# Altium footprint library 691 313 510 0xx.PcbLib: 23 footprints (part 2 of 2)
Each footprint in its own frame and in the unit in brackets; x right, y up, seen from the top. Pads: shape width x height; smd on the part's side, far side on the other; paste and mask are expansions set on the pad; w line width, h text height; cw(c..) or ccw(c..) is an arc to the next point about the centre after c.
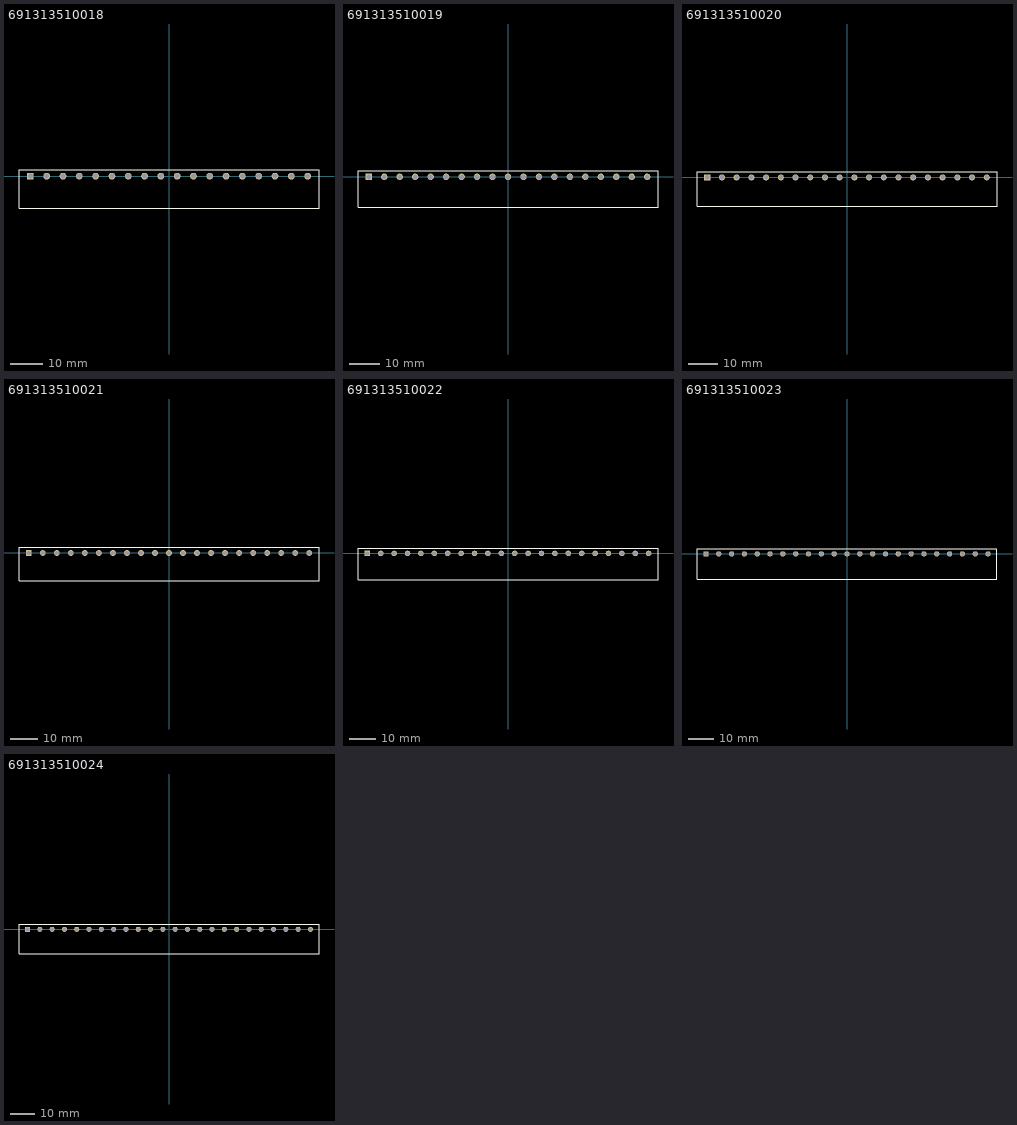
[diagram p1: the footprints below, top view; thin cyan lines are the x and y axes]

## 691313510018 [mm] "5,08mm - PCB Headers - Horizontal - Closed ends - 18p"
height 8.5
pads (18):
  rect 2.1x2.1 hole 1.6: 1(-43.18,0)
  round 2.1 hole 1.6: 2(-38.1,0) 3(-33.02,0) 4(-27.94,0) 5(-22.86,0) 6(-17.78,0) 7(-12.7,0) 8(-7.62,0) 9(-2.54,0) 10(2.54,0) 11(7.62,0) 12(12.7,0) 13(17.78,0) 14(22.86,0) 15(27.94,0) 16(33.02,0) 17(38.1,0) 18(43.18,0)
Top Overlay:
  lines w0.127: -46.72,-10 46.72,-10 46.72,2 -46.72,2 -46.72,-10
3D body: height 8.51, standoff -3.49, extent -46.72,-10 46.72,2

## 691313510019 [mm] "5,08mm - PCB Headers - Horizontal - Closed ends - 19p"
height 8.5
pads (19):
  rect 2.1x2.1 hole 1.6: 1(-45.72,0)
  round 2.1 hole 1.6: 2(-40.64,0) 3(-35.56,0) 4(-30.48,0) 5(-25.4,0) 6(-20.32,0) 7(-15.24,0) 8(-10.16,0) 9(-5.08,0) 10(0,0) 11(5.08,0) 12(10.16,0) 13(15.24,0) 14(20.32,0) 15(25.4,0) 16(30.48,0) 17(35.56,0) 18(40.64,0) 19(45.72,0)
Top Overlay:
  lines w0.127: -49.26,-10 49.26,-10 49.26,2 -49.26,2 -49.26,-10
3D body: height 8.51, standoff -3.49, extent -49.26,-10 49.26,2

## 691313510020 [mm] "5,08mm - PCB Headers - Horizontal - Closed ends - 20p"
height 8.5
pads (20):
  rect 2.1x2.1 hole 1.6: 1(-48.26,0)
  round 2.1 hole 1.6: 2(-43.18,0) 3(-38.1,0) 4(-33.02,0) 5(-27.94,0) 6(-22.86,0) 7(-17.78,0) 8(-12.7,0) 9(-7.62,0) 10(-2.54,0) 11(2.54,0) 12(7.62,0) 13(12.7,0) 14(17.78,0) 15(22.86,0) 16(27.94,0) 17(33.02,0) 18(38.1,0) 19(43.18,0) 20(48.26,0)
Top Overlay:
  lines w0.127: -51.8,-10 51.8,-10 51.8,2 -51.8,2 -51.8,-10
3D body: height 8.51, standoff -3.49, extent -51.8,-10 51.8,2

## 691313510021 [mm] "5,08mm - PCB Headers - Horizontal - Closed ends - 21p"
height 8.5
pads (21):
  rect 2.1x2.1 hole 1.6: 1(-50.8,0)
  round 2.1 hole 1.6: 2(-45.72,0) 3(-40.64,0) 4(-35.56,0) 5(-30.48,0) 6(-25.4,0) 7(-20.32,0) 8(-15.24,0) 9(-10.16,0) 10(-5.08,0) 11(0,0) 12(5.08,0) 13(10.16,0) 14(15.24,0) 15(20.32,0) 16(25.4,0) 17(30.48,0) 18(35.56,0) 19(40.64,0) 20(45.72,0) 21(50.8,0)
Top Overlay:
  lines w0.127: -54.34,-10 54.34,-10 54.34,2 -54.34,2 -54.34,-10
3D body: height 8.51, standoff -3.49, extent -54.34,-10 54.34,2

## 691313510022 [mm] "5,08mm - PCB Headers - Horizontal - Closed ends - 22p"
height 8.5
pads (22):
  rect 2.1x2.1 hole 1.6: 1(-53.34,0)
  round 2.1 hole 1.6: 2(-48.26,0) 3(-43.18,0) 4(-38.1,0) 5(-33.02,0) 6(-27.94,0) 7(-22.86,0) 8(-17.78,0) 9(-12.7,0) 10(-7.62,0) 11(-2.54,0) 12(2.54,0) 13(7.62,0) 14(12.7,0) 15(17.78,0) 16(22.86,0) 17(27.94,0) 18(33.02,0) 19(38.1,0) 20(43.18,0) 21(48.26,0) 22(53.34,0)
Top Overlay:
  lines w0.127: -56.88,-10 56.88,-10 56.88,2 -56.88,2 -56.88,-10
3D body: height 8.51, standoff -3.49, extent -56.88,-10 56.88,2

## 691313510023 [mm] "5,08mm - PCB Headers - Horizontal - Closed ends -23p"
height 8.5
pads (23):
  rect 2.1x2.1 hole 1.6: 1(-55.88,0)
  round 2.1 hole 1.6: 2(-50.8,0) 3(-45.72,0) 4(-40.64,0) 5(-35.56,0) 6(-30.48,0) 7(-25.4,0) 8(-20.32,0) 9(-15.24,0) 10(-10.16,0) 11(-5.08,0) 12(0,0) 13(5.08,0) 14(10.16,0) 15(15.24,0) 16(20.32,0) 17(25.4,0) 18(30.48,0) 19(35.56,0) 20(40.64,0) 21(45.72,0) 22(50.8,0) 23(55.88,0)
Top Overlay:
  lines w0.127: -59.42,-10 -59.42,2 59.42,2 59.42,-10 -59.42,-10
3D body: height 8.51, standoff -3.49, extent -59.42,-10 59.42,2

## 691313510024 [mm] "5,08mm - PCB Headers - Horizontal - Closed ends - 24p"
height 8.5
pads (24):
  rect 2.1x2.1 hole 1.6: 1(-58.42,0)
  round 2.1 hole 1.6: 2(-53.34,0) 3(-48.26,0) 4(-43.18,0) 5(-38.1,0) 6(-33.02,0) 7(-27.94,0) 8(-22.86,0) 9(-17.78,0) 10(-12.7,0) 11(-7.62,0) 12(-2.54,0) 13(2.54,0) 14(7.62,0) 15(12.7,0) 16(17.78,0) 17(22.86,0) 18(27.94,0) 19(33.02,0) 20(38.1,0) 21(43.18,0) 22(48.26,0) 23(53.34,0) 24(58.42,0)
Top Overlay:
  lines w0.127: -61.96,-10 61.96,-10 61.96,2 -61.96,2 -61.96,-10
3D body: height 8.51, standoff -3.49, extent -61.96,-10 61.96,2